# Altium schematic symbol library N-Header 8X2.SchLib: 1 symbol
Pins are listed as number, name and electrical type; pins without a type are passive.

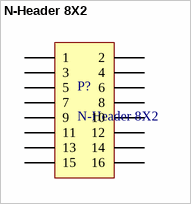
[diagram p0: symbol N-Header 8X2]

## N-Header 8X2
designator P?
footprint N-Header 8X2
pins: 1, 2, 3, 4, 5, 6, 7, 8, 9, 10, 11, 12, 13, 14, 15, 16